# EAGLE library part OSTCXBC1C1E (library optosupply)
3W RGB HIGH POWER LED Source: http://www.optosupply.com/UploadFile/PDF/ostcxbc1c1e.pdf
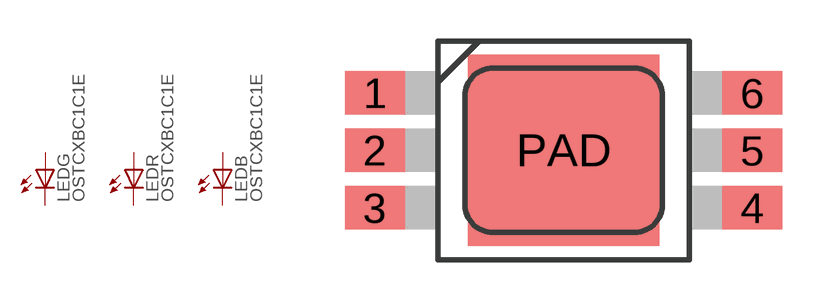
[diagram p1: symbol with the pads of OSTCXBC1C1E; footprint OSTCXBC1C1E]

Designator prefix LED; gates G=LED B=LED R=LED_WITH_ANODE_PAD

## OSTCXBC1C1E  [OSTCXBC1C1E]
1  G:C  pas
2  R:C  pas
3  B:C  pas
4  B:A  pas
5  R:A  pas
6  G:A  pas
PAD  R:A_PAD  pas

## Footprint OSTCXBC1C1E (pad centres in mm)
smd 2.2 x 1.6: 1 -6.9,2.1; 2 -6.9,0; 3 -6.9,-2.1; 4 6.9,-2.1; 5 6.9,0; 6 6.9,2.1
smd 7 x 7: PAD 0,0